# EAGLE library part TQM (library tqm)
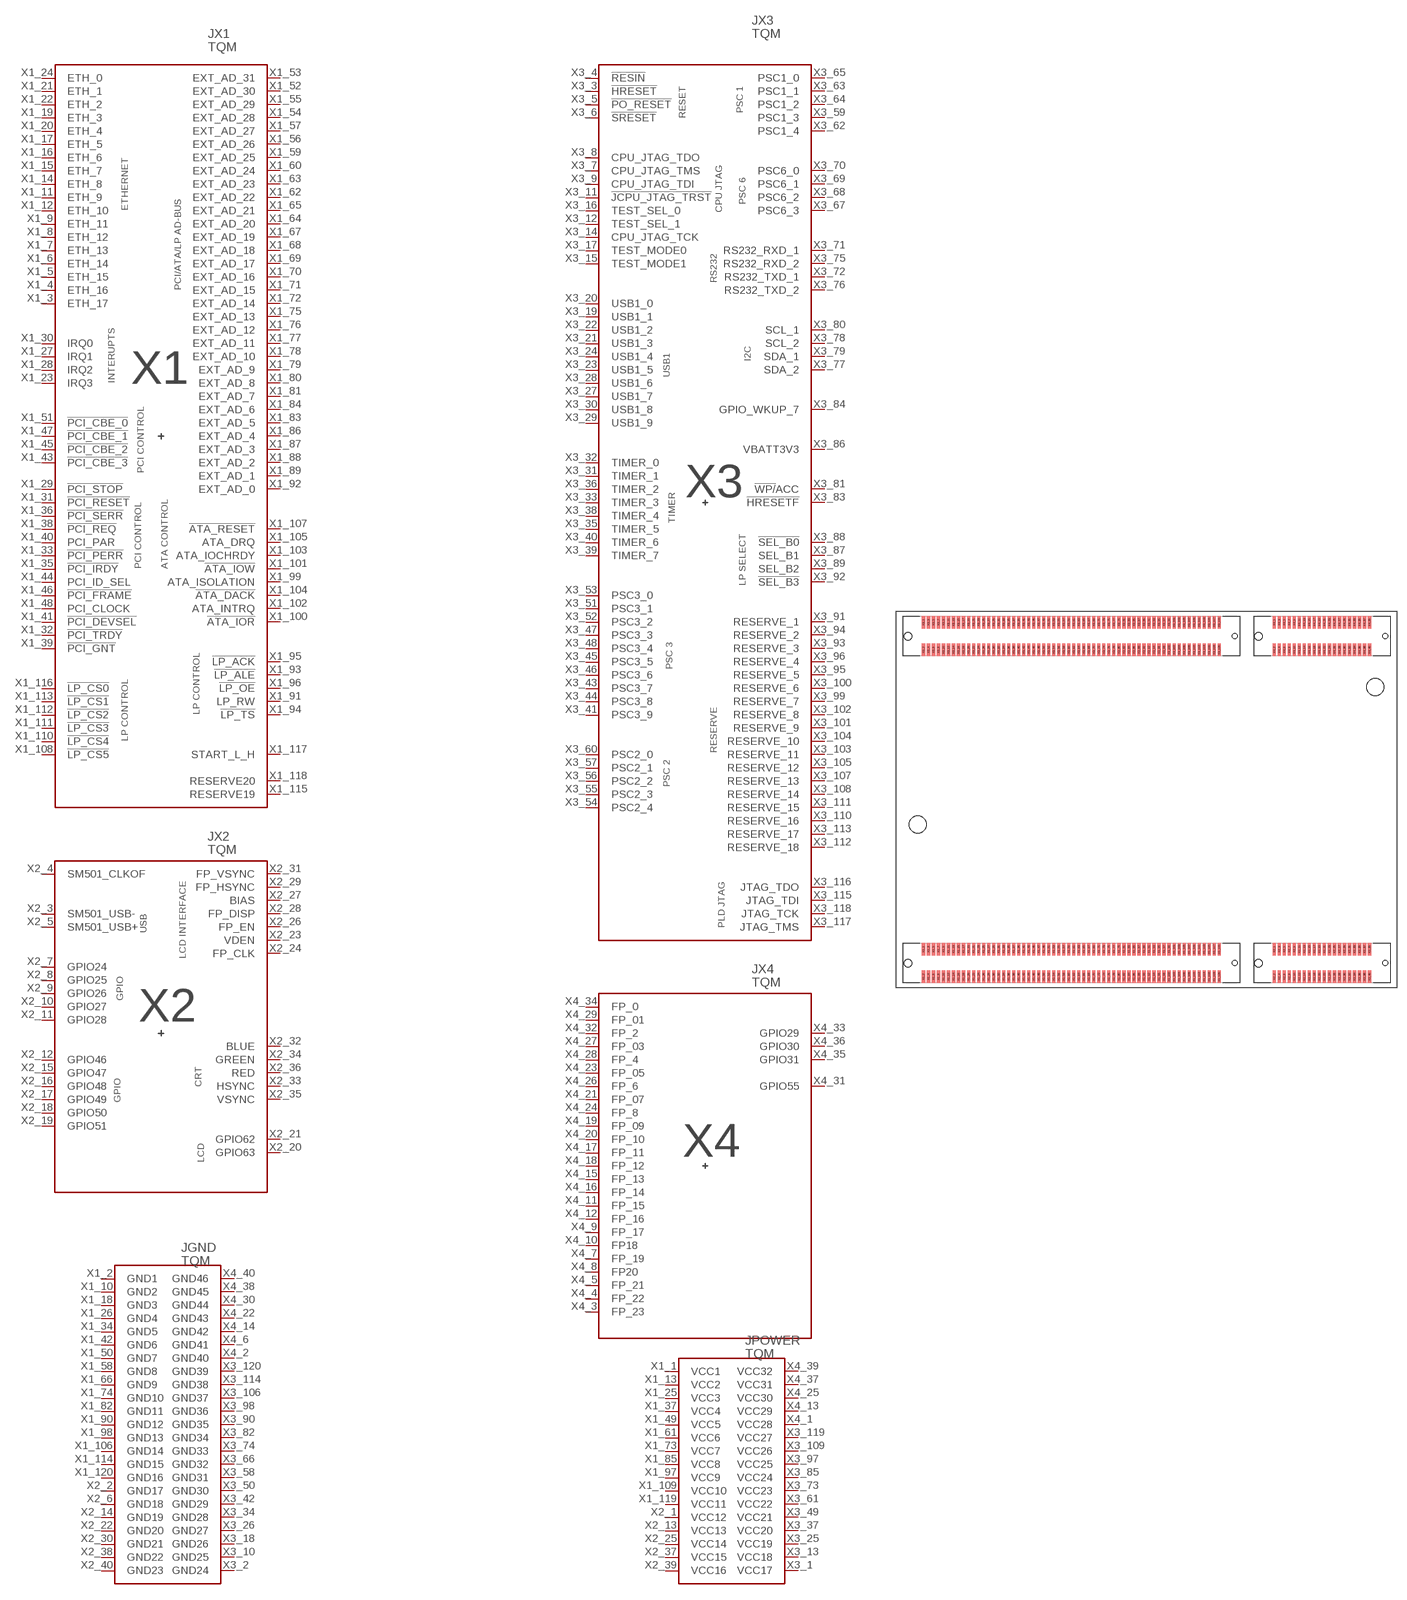
[diagram p0: symbol with the pads of TQM; footprint TQM]

Designator prefix J; gates X1=TQM_X1 X2=TQM_X2 X3=TQM_X3 X4=TQM_X4 GND=GND POWER=PWR

## TQM  [TQM]
X1_1  POWER:VCC1  pwr
X1_2  GND:GND1  pwr
X1_3  X1:ETH_17
X1_4  X1:ETH_16
X1_5  X1:ETH_15
X1_6  X1:ETH_14
X1_7  X1:ETH_13
X1_8  X1:ETH_12  in
X1_9  X1:ETH_11
X1_10  GND:GND2  pwr
X1_11  X1:ETH_9
X1_12  X1:ETH_10
X1_13  POWER:VCC2  pwr
X1_14  X1:ETH_8
X1_15  X1:ETH_7
X1_16  X1:ETH_6
X1_17  X1:ETH_5
X1_18  GND:GND3  pwr
X1_19  X1:ETH_3
X1_20  X1:ETH_4
X1_21  X1:ETH_1
X1_22  X1:ETH_2
X1_23  X1:IRQ3  in
X1_24  X1:ETH_0
X1_25  POWER:VCC3  pwr
X1_26  GND:GND4  pwr
X1_27  X1:IRQ1  in
X1_28  X1:IRQ2  in
X1_29  X1:!PCI_STOP
X1_30  X1:IRQ0  in
X1_31  X1:!PCI_RESET  out
X1_32  X1:!PCI_TRDY
X1_33  X1:!PCI_PERR
X1_34  GND:GND5  pwr
X1_35  X1:!PCI_IRDY
X1_36  X1:!PCI_SERR
X1_37  POWER:VCC4  pwr
X1_38  X1:!PCI_REQ  out
X1_39  X1:!PCI_GNT  in
X1_40  X1:PCI_PAR
X1_41  X1:!PCI_DEVSEL
X1_42  GND:GND6  pwr
X1_43  X1:!PCI_CBE_3
X1_44  X1:PCI_ID_SEL  in
X1_45  X1:!PCI_CBE_2
X1_46  X1:!PCI_FRAME
X1_47  X1:!PCI_CBE_1
X1_48  X1:PCI_CLOCK  out
X1_49  POWER:VCC5  pwr
X1_50  GND:GND7  pwr
X1_51  X1:!PCI_CBE_0
X1_52  X1:EXT_AD_30
X1_53  X1:EXT_AD_31
X1_54  X1:EXT_AD_28
X1_55  X1:EXT_AD_29
X1_56  X1:EXT_AD_26
X1_57  X1:EXT_AD_27
X1_58  GND:GND8  pwr
X1_59  X1:EXT_AD_25
X1_60  X1:EXT_AD_24
X1_61  POWER:VCC6  pwr
X1_62  X1:EXT_AD_22
X1_63  X1:EXT_AD_23
X1_64  X1:EXT_AD_20
X1_65  X1:EXT_AD_21
X1_66  GND:GND9  pwr
X1_67  X1:EXT_AD_19
X1_68  X1:EXT_AD_18
X1_69  X1:EXT_AD_17
X1_70  X1:EXT_AD_16
X1_71  X1:EXT_AD_15
X1_72  X1:EXT_AD_14
X1_73  POWER:VCC7  pwr
X1_74  GND:GND10  pwr
X1_75  X1:EXT_AD_13
X1_76  X1:EXT_AD_12
X1_77  X1:EXT_AD_11
X1_78  X1:EXT_AD_10
X1_79  X1:EXT_AD_9
X1_80  X1:EXT_AD_8
X1_81  X1:EXT_AD_7
X1_82  GND:GND11  pwr
X1_83  X1:EXT_AD_5
X1_84  X1:EXT_AD_6
X1_85  POWER:VCC8  pwr
X1_86  X1:EXT_AD_4
X1_87  X1:EXT_AD_3
X1_88  X1:EXT_AD_2
X1_89  X1:EXT_AD_1
X1_90  GND:GND12  pwr
X1_91  X1:LP_RW  out
X1_92  X1:EXT_AD_0
X1_93  X1:!LP_ALE
X1_94  X1:!LP_TS  out
X1_95  X1:!LP_ACK
X1_96  X1:!LP_OE  out
X1_97  POWER:VCC9  pwr
X1_98  GND:GND13  pwr
X1_99  X1:ATA_ISOLATION  out
X1_100  X1:!ATA_IOR  out
X1_101  X1:!ATA_IOW  out
X1_102  X1:ATA_INTRQ  in
X1_103  X1:ATA_IOCHRDY  in
X1_104  X1:!ATA_DACK  out
X1_105  X1:ATA_DRQ  in
X1_106  GND:GND14  pwr
X1_107  X1:!ATA_RESET  out
X1_108  X1:!LP_CS5  out
X1_109  POWER:VCC10  pwr
X1_110  X1:!LP_CS4  out
X1_111  X1:!LP_CS3  out
X1_112  X1:!LP_CS2  out
X1_113  X1:!LP_CS1  out
X1_114  GND:GND15  pwr
X1_115  X1:RESERVE19  nc
X1_116  X1:!LP_CS0  out
X1_117  X1:START_L_H
X1_118  X1:RESERVE20  nc
X1_119  POWER:VCC11  pwr
X1_120  GND:GND16  pwr
X2_1  POWER:VCC12  pwr
X2_2  GND:GND17  pwr
X2_3  X2:SM501_USB-
X2_4  X2:SM501_CLKOF
X2_5  X2:SM501_USB+
X2_6  GND:GND18  pwr
X2_7  X2:GPIO24
X2_8  X2:GPIO25
X2_9  X2:GPIO26
X2_10  X2:GPIO27
X2_11  X2:GPIO28
X2_12  X2:GPIO46
X2_13  POWER:VCC13  pwr
X2_14  GND:GND19  pwr
X2_15  X2:GPIO47
X2_16  X2:GPIO48
X2_17  X2:GPIO49
X2_18  X2:GPIO50
X2_19  X2:GPIO51
X2_20  X2:GPIO63
X2_21  X2:GPIO62
X2_22  GND:GND20  pwr
X2_23  X2:VDEN
X2_24  X2:FP_CLK  out
X2_25  POWER:VCC14  pwr
X2_26  X2:FP_EN  out
X2_27  X2:BIAS
X2_28  X2:FP_DISP  in
X2_29  X2:FP_HSYNC  out
X2_30  GND:GND21  pwr
X2_31  X2:FP_VSYNC  out
X2_32  X2:BLUE  out
X2_33  X2:HSYNC  out
X2_34  X2:GREEN  out
X2_35  X2:VSYNC  out
X2_36  X2:RED  out
X2_37  POWER:VCC15  pwr
X2_38  GND:GND22  pwr
X2_39  POWER:VCC16  pwr
X2_40  GND:GND23  pwr
X3_1  POWER:VCC17  pwr
X3_2  GND:GND24  pwr
X3_3  X3:!HRESET
X3_4  X3:!RESIN
X3_5  X3:!PO_RESET
X3_6  X3:!SRESET  in
X3_7  X3:CPU_JTAG_TMS
X3_8  X3:CPU_JTAG_TDO  out
X3_9  X3:CPU_JTAG_TDI
X3_10  GND:GND25  pwr
X3_11  X3:!JCPU_JTAG_TRST
X3_12  X3:TEST_SEL_1
X3_13  POWER:VCC18  pwr
X3_14  X3:CPU_JTAG_TCK  out
X3_15  X3:TEST_MODE1
X3_16  X3:TEST_SEL_0
X3_17  X3:TEST_MODE0
X3_18  GND:GND26  pwr
X3_19  X3:USB1_1
X3_20  X3:USB1_0
X3_21  X3:USB1_3  in
X3_22  X3:USB1_2
X3_23  X3:USB1_5  in
X3_24  X3:USB1_4  in
X3_25  POWER:VCC19  pwr
X3_26  GND:GND27  pwr
X3_27  X3:USB1_7
X3_28  X3:USB1_6
X3_29  X3:USB1_9
X3_30  X3:USB1_8
X3_31  X3:TIMER_1
X3_32  X3:TIMER_0
X3_33  X3:TIMER_3
X3_34  GND:GND28  pwr
X3_35  X3:TIMER_5
X3_36  X3:TIMER_2
X3_37  POWER:VCC20  pwr
X3_38  X3:TIMER_4
X3_39  X3:TIMER_7
X3_40  X3:TIMER_6
X3_41  X3:PSC3_9
X3_42  GND:GND29  pwr
X3_43  X3:PSC3_7
X3_44  X3:PSC3_8
X3_45  X3:PSC3_5
X3_46  X3:PSC3_6
X3_47  X3:PSC3_3
X3_48  X3:PSC3_4
X3_49  POWER:VCC21  pwr
X3_50  GND:GND30  pwr
X3_51  X3:PSC3_1
X3_52  X3:PSC3_2
X3_53  X3:PSC3_0
X3_54  X3:PSC2_4
X3_55  X3:PSC2_3
X3_56  X3:PSC2_2
X3_57  X3:PSC2_1
X3_58  GND:GND31  pwr
X3_59  X3:PSC1_3
X3_60  X3:PSC2_0
X3_61  POWER:VCC22  pwr
X3_62  X3:PSC1_4
X3_63  X3:PSC1_1
X3_64  X3:PSC1_2
X3_65  X3:PSC1_0
X3_66  GND:GND32  pwr
X3_67  X3:PSC6_3
X3_68  X3:PSC6_2
X3_69  X3:PSC6_1
X3_70  X3:PSC6_0
X3_71  X3:RS232_RXD_1  in
X3_72  X3:RS232_TXD_1  out
X3_73  POWER:VCC23  pwr
X3_74  GND:GND33  pwr
X3_75  X3:RS232_RXD_2  in
X3_76  X3:RS232_TXD_2  out
X3_77  X3:SDA_2
X3_78  X3:SCL_2
X3_79  X3:SDA_1
X3_80  X3:SCL_1
X3_81  X3:!WP/!ACC
X3_82  GND:GND34  pwr
X3_83  X3:!HRESETF
X3_84  X3:GPIO_WKUP_7
X3_85  POWER:VCC24  pwr
X3_86  X3:VBATT3V3
X3_87  X3:SEL_B1
X3_88  X3:!SEL_B0
X3_89  X3:SEL_B2
X3_90  GND:GND35  pwr
X3_91  X3:RESERVE_1  nc
X3_92  X3:!SEL_B3
X3_93  X3:RESERVE_3  nc
X3_94  X3:RESERVE_2  nc
X3_95  X3:RESERVE_5  nc
X3_96  X3:RESERVE_4  nc
X3_97  POWER:VCC25  pwr
X3_98  GND:GND36  pwr
X3_99  X3:RESERVE_7  nc
X3_100  X3:RESERVE_6  nc
X3_101  X3:RESERVE_9  nc
X3_102  X3:RESERVE_8  nc
X3_103  X3:RESERVE_11  nc
X3_104  X3:RESERVE_10  nc
X3_105  X3:RESERVE_12  nc
X3_106  GND:GND37  pwr
X3_107  X3:RESERVE_13  nc
X3_108  X3:RESERVE_14  nc
X3_109  POWER:VCC26  pwr
X3_110  X3:RESERVE_16  nc
X3_111  X3:RESERVE_15  nc
X3_112  X3:RESERVE_18  nc
X3_113  X3:RESERVE_17  nc
X3_114  GND:GND38  pwr
X3_115  X3:JTAG_TDI
X3_116  X3:JTAG_TDO
X3_117  X3:JTAG_TMS
X3_118  X3:JTAG_TCK
X3_119  POWER:VCC27  pwr
X3_120  GND:GND39  pwr
X4_1  POWER:VCC28  pwr
X4_2  GND:GND40  pwr
X4_3  X4:FP_23
X4_4  X4:FP_22
X4_5  X4:FP_21
X4_6  GND:GND41  pwr
X4_7  X4:FP_19
X4_8  X4:FP20
X4_9  X4:FP_17
X4_10  X4:FP18
X4_11  X4:FP_15
X4_12  X4:FP_16
X4_13  POWER:VCC29  pwr
X4_14  GND:GND42  pwr
X4_15  X4:FP_13
X4_16  X4:FP_14
X4_17  X4:FP_11
X4_18  X4:FP_12
X4_19  X4:FP_09
X4_20  X4:FP_10
X4_21  X4:FP_07
X4_22  GND:GND43  pwr
X4_23  X4:FP_05
X4_24  X4:FP_8
X4_25  POWER:VCC30  pwr
X4_26  X4:FP_6
X4_27  X4:FP_03
X4_28  X4:FP_4
X4_29  X4:FP_01
X4_30  GND:GND44  pwr
X4_31  X4:GPIO55
X4_32  X4:FP_2
X4_33  X4:GPIO29
X4_34  X4:FP_0
X4_35  X4:GPIO31
X4_36  X4:GPIO30
X4_37  POWER:VCC31  pwr
X4_38  GND:GND45  pwr
X4_39  POWER:VCC32  pwr
X4_40  GND:GND46  pwr

## Footprint TQM (pad centres in mm)
smd 0.5 x 2: X1_1 -35.6,-23.9; X1_2 -35.6,-28.3; X1_3 -34.8,-23.9; X1_4 -34.8,-28.3; X1_5 -34,-23.9; X1_6 -34,-28.3; X1_7 -33.2,-23.9; X1_8 -33.2,-28.3; X1_9 -32.4,-23.9; X1_10 -32.4,-28.3; X1_11 -31.6,-23.9; X1_12 -31.6,-28.3; X1_13 -30.8,-23.9; X1_14 -30.8,-28.3; X1_15 -30,-23.9; X1_16 -30,-28.3; X1_17 -29.2,-23.9; X1_18 -29.2,-28.3; X1_19 -28.4,-23.9; X1_20 -28.4,-28.3; X1_21 -27.6,-23.9; X1_22 -27.6,-28.3; X1_23 -26.8,-23.9; X1_24 -26.8,-28.3; X1_25 -26,-23.9; X1_26 -26,-28.3; X1_27 -25.2,-23.9; X1_28 -25.2,-28.3; X1_29 -24.4,-23.9; X1_30 -24.4,-28.3; X1_31 -23.6,-23.9; X1_32 -23.6,-28.3; X1_33 -22.8,-23.9; X1_34 -22.8,-28.3; X1_35 -22,-23.9; X1_36 -22,-28.3; X1_37 -21.2,-23.9; X1_38 -21.2,-28.3; X1_39 -20.4,-23.9; X1_40 -20.4,-28.3; X1_41 -19.6,-23.9; X1_42 -19.6,-28.3; X1_43 -18.8,-23.9; X1_44 -18.8,-28.3; X1_45 -18,-23.9; X1_46 -18,-28.3; X1_47 -17.2,-23.9; X1_48 -17.2,-28.3; X1_49 -16.4,-23.9; X1_50 -16.4,-28.3; X1_51 -15.6,-23.9; X1_52 -15.6,-28.3; X1_53 -14.8,-23.9; X1_54 -14.8,-28.3; X1_55 -14,-23.9; X1_56 -14,-28.3; X1_57 -13.2,-23.9; X1_58 -13.2,-28.3; X1_59 -12.4,-23.9; X1_60 -12.4,-28.3; X1_61 -11.6,-23.9; X1_62 -11.6,-28.3; X1_63 -10.8,-23.9; X1_64 -10.8,-28.3; X1_65 -10,-23.9; X1_66 -10,-28.3; X1_67 -9.2,-23.9; X1_68 -9.2,-28.3; X1_69 -8.4,-23.9; X1_70 -8.4,-28.3; X1_71 -7.6,-23.9; X1_72 -7.6,-28.3; X1_73 -6.8,-23.9; X1_74 -6.8,-28.3; X1_75 -6,-23.9; X1_76 -6,-28.3; X1_77 -5.2,-23.9; X1_78 -5.2,-28.3; X1_79 -4.4,-23.9; X1_80 -4.4,-28.3; X1_81 -3.6,-23.9; X1_82 -3.6,-28.3; X1_83 -2.8,-23.9; X1_84 -2.8,-28.3; X1_85 -2,-23.9; X1_86 -2,-28.3; X1_87 -1.2,-23.9; X1_88 -1.2,-28.3; X1_89 -0.4,-23.9; X1_90 -0.4,-28.3; X1_91 0.4,-23.9; X1_92 0.4,-28.3; X1_93 1.2,-23.9; X1_94 1.2,-28.3; X1_95 2,-23.9; X1_96 2,-28.3; X1_97 2.8,-23.9; X1_98 2.8,-28.3; X1_99 3.6,-23.9; X1_100 3.6,-28.3; X1_101 4.4,-23.9; X1_102 4.4,-28.3; X1_103 5.2,-23.9; X1_104 5.2,-28.3; X1_105 6,-23.9; X1_106 6,-28.3; X1_107 6.8,-23.9; X1_108 6.8,-28.3; X1_109 7.6,-23.9; X1_110 7.6,-28.3; X1_111 8.4,-23.9; X1_112 8.4,-28.3; X1_113 9.2,-23.9; X1_114 9.2,-28.3; X1_115 10,-23.9; X1_116 10,-28.3; X1_117 10.8,-23.9; X1_118 10.8,-28.3; X1_119 11.6,-23.9; X1_120 11.6,-28.3; X2_1 20.4,-23.9; X2_2 20.4,-28.3; X2_3 21.2,-23.9; X2_4 21.2,-28.3; X2_5 22,-23.9; X2_6 22,-28.3; X2_7 22.8,-23.9; X2_8 22.8,-28.3; X2_9 23.6,-23.9; X2_10 23.6,-28.3; X2_11 24.4,-23.9; X2_12 24.4,-28.3; X2_13 25.2,-23.9; X2_14 25.2,-28.3; X2_15 26,-23.9; X2_16 26,-28.3; X2_17 26.8,-23.9; X2_18 26.8,-28.3; X2_19 27.6,-23.9; X2_20 27.6,-28.3; X2_21 28.4,-23.9; X2_22 28.4,-28.3; X2_23 29.2,-23.9; X2_24 29.2,-28.3; X2_25 30,-23.9; X2_26 30,-28.3; X2_27 30.8,-23.9; X2_28 30.8,-28.3; X2_29 31.6,-23.9; X2_30 31.6,-28.3; X2_31 32.4,-23.9; X2_32 32.4,-28.3; X2_33 33.2,-23.9; X2_34 33.2,-28.3; X2_35 34,-23.9; X2_36 34,-28.3; X2_37 34.8,-23.9; X2_38 34.8,-28.3; X2_39 35.6,-23.9; X2_40 35.6,-28.3; X3_1 -35.6,28.3; X3_2 -35.6,23.9; X3_3 -34.8,28.3; X3_4 -34.8,23.9; X3_5 -34,28.3; X3_6 -34,23.9; X3_7 -33.2,28.3; X3_8 -33.2,23.9; X3_9 -32.4,28.3; X3_10 -32.4,23.9; X3_11 -31.6,28.3; X3_12 -31.6,23.9; X3_13 -30.8,28.3; X3_14 -30.8,23.9; X3_15 -30,28.3; X3_16 -30,23.9; X3_17 -29.2,28.3; X3_18 -29.2,23.9; X3_19 -28.4,28.3; X3_20 -28.4,23.9; X3_21 -27.6,28.3; X3_22 -27.6,23.9; X3_23 -26.8,28.3; X3_24 -26.8,23.9; X3_25 -26,28.3; X3_26 -26,23.9; X3_27 -25.2,28.3; X3_28 -25.2,23.9; X3_29 -24.4,28.3; X3_30 -24.4,23.9; X3_31 -23.6,28.3; X3_32 -23.6,23.9; X3_33 -22.8,28.3; X3_34 -22.8,23.9; X3_35 -22,28.3; X3_36 -22,23.9; X3_37 -21.2,28.3; X3_38 -21.2,23.9; X3_39 -20.4,28.3; X3_40 -20.4,23.9; X3_41 -19.6,28.3; X3_42 -19.6,23.9; X3_43 -18.8,28.3; X3_44 -18.8,23.9; X3_45 -18,28.3; X3_46 -18,23.9; X3_47 -17.2,28.3; X3_48 -17.2,23.9; X3_49 -16.4,28.3; X3_50 -16.4,23.9; X3_51 -15.6,28.3; X3_52 -15.6,23.9; X3_53 -14.8,28.3; X3_54 -14.8,23.9; X3_55 -14,28.3; X3_56 -14,23.9; X3_57 -13.2,28.3; X3_58 -13.2,23.9; X3_59 -12.4,28.3; X3_60 -12.4,23.9; X3_61 -11.6,28.3; X3_62 -11.6,23.9; X3_63 -10.8,28.3; X3_64 -10.8,23.9; X3_65 -10,28.3; X3_66 -10,23.9; X3_67 -9.2,28.3; X3_68 -9.2,23.9; X3_69 -8.4,28.3; X3_70 -8.4,23.9; X3_71 -7.6,28.3; X3_72 -7.6,23.9; X3_73 -6.8,28.3; X3_74 -6.8,23.9; X3_75 -6,28.3; X3_76 -6,23.9; X3_77 -5.2,28.3; X3_78 -5.2,23.9; X3_79 -4.4,28.3; X3_80 -4.4,23.9; X3_81 -3.6,28.3; X3_82 -3.6,23.9; X3_83 -2.8,28.3; X3_84 -2.8,23.9; X3_85 -2,28.3; X3_86 -2,23.9; X3_87 -1.2,28.3; X3_88 -1.2,23.9; X3_89 -0.4,28.3; X3_90 -0.4,23.9; X3_91 0.4,28.3; X3_92 0.4,23.9; X3_93 1.2,28.3; X3_94 1.2,23.9; X3_95 2,28.3; X3_96 2,23.9; X3_97 2.8,28.3; X3_98 2.8,23.9; X3_99 3.6,28.3; X3_100 3.6,23.9; X3_101 4.4,28.3; X3_102 4.4,23.9; X3_103 5.2,28.3; X3_104 5.2,23.9; X3_105 6,28.3; X3_106 6,23.9; X3_107 6.8,28.3; X3_108 6.8,23.9; X3_109 7.6,28.3; X3_110 7.6,23.9; X3_111 8.4,28.3; X3_112 8.4,23.9; X3_113 9.2,28.3; X3_114 9.2,23.9; X3_115 10,28.3; X3_116 10,23.9; X3_117 10.8,28.3; X3_118 10.8,23.9; X3_119 11.6,28.3; X3_120 11.6,23.9; X4_1 20.4,28.3; X4_2 20.4,23.9; X4_3 21.2,28.3; X4_4 21.2,23.9; X4_5 22,28.3; X4_6 22,23.9; X4_7 22.8,28.3; X4_8 22.8,23.9; X4_9 23.6,28.3; X4_10 23.6,23.9; X4_11 24.4,28.3; X4_12 24.4,23.9; X4_13 25.2,28.3; X4_14 25.2,23.9; X4_15 26,28.3; X4_16 26,23.9; X4_17 26.8,28.3; X4_18 26.8,23.9; X4_19 27.6,28.3; X4_20 27.6,23.9; X4_21 28.4,28.3; X4_22 28.4,23.9; X4_23 29.2,28.3; X4_24 29.2,23.9; X4_25 30,28.3; X4_26 30,23.9; X4_27 30.8,28.3; X4_28 30.8,23.9; X4_29 31.6,28.3; X4_30 31.6,23.9; X4_31 32.4,28.3; X4_32 32.4,23.9; X4_33 33.2,28.3; X4_34 33.2,23.9; X4_35 34,28.3; X4_36 34,23.9; X4_37 34.8,28.3; X4_38 34.8,23.9; X4_39 35.6,28.3; X4_40 35.6,23.9
hole 1.2 at 17.9,-26.1
hole 0.8 at 38.1,-26.1
hole 1.2 at 17.9,26.1
hole 0.8 at 38.1,26.1
hole 0.8 at 14.1,-26.1
hole 1.2 at -38.1,-26.1
hole 0.8 at 14.1,26.1
hole 1.2 at -38.1,26.1
hole 2.7 at -36.5,-4
hole 2.7 at 36.5,18